# EAGLE library part 749020015 (library WE-LAN)
WE-LAN LAN Transformer Characteristics Suitable for industrial temperatures from –40 °C up to +125 °C Different version available from 1.5 kV isolation to 6 kV. HPLE version Additional CMC for higher attenuation Non PoE, PoE and PoE++ up to 2 A PoE up to 150 W and speeds up to 1 Gbit/s Available in SMT Compliant with standards: IEEE 802.3u, IEEE 802.3ab, IEEE 802.3af, IEEE 802.3at and IEEE 802.3bt UL Recognized Applications Compatible to Industrial Ethernet systems like EtherCAT or Profinet Compliant with most IC’s for Ethernet applications such as Microchip, Texas Instruments, Broadcom, Linear Technology Router, switches, sensors, robotics, automation, IP cameras, IoT applications Details see: www.we-online.com/en/components/products/WE-LAN Created by Ella 2026-07-23 2026 (C) Würth Elektronik
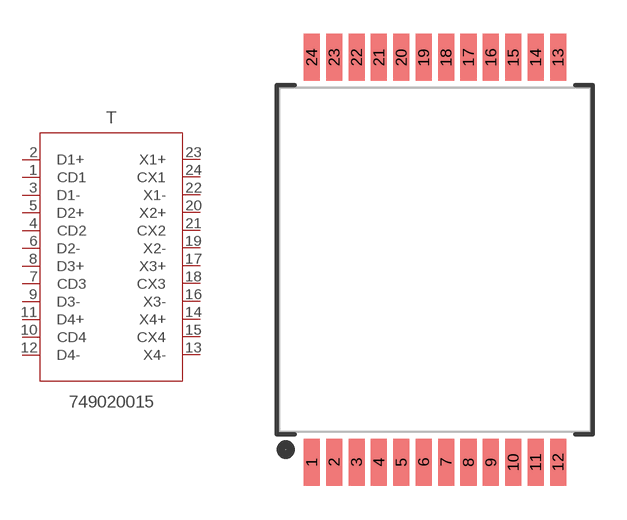
[diagram p40: symbol with the pads of 749020015; footprint 749020015]

Designator prefix T

## 749020015 (DATA-RATE: 10/100/1000BASE-T; DATASHEET: https://www.we-online.com/redexpert/spec/749020015?ae; HPLE: No; IMPROVED-CMRR: No; L: 350 uH; MOUNT: SMT; OPERATING-TEMPERATURE: -40 °C up to +85 °C; PART-NUMBER: 749020015; POE: non-PoE; PORTS: 1; VALUE: 749020015; VT: 1500 V (RMS))  [749020015]
1  CD1  pas
2  D1+  pas
3  D1-  pas
4  CD2  pas
5  D2+  pas
6  D2-  pas
7  CD3  pas
8  D3+  pas
9  D3-  pas
10  CD4  pas
11  D4+  pas
12  D4-  pas
13  X4-  pas
14  X4+  pas
15  CX4  pas
16  X3-  pas
17  X3+  pas
18  CX3  pas
19  X2-  pas
20  X2+  pas
21  CX2  pas
22  X1-  pas
23  X1+  pas
24  CX1  pas

## Footprint 749020015 (pad centres in mm)
WE-LAN LAN Transformer 10/100/1000BASE-T, 1Port, SMT
smd 0.71 x 2.08: 1 -5.445,-8.955; 2 -4.455,-8.955; 3 -3.465,-8.955; 4 -2.475,-8.955; 5 -1.485,-8.955; 6 -0.495,-8.955; 7 0.495,-8.955; 8 1.485,-8.955; 9 2.475,-8.955; 10 3.465,-8.955; 11 4.455,-8.955; 12 5.445,-8.955; 13 5.445,8.955; 14 4.455,8.955; 15 3.465,8.955; 16 2.475,8.955; 17 1.485,8.955; 18 0.495,8.955; 19 -0.495,8.955; 20 -1.485,8.955; 21 -2.475,8.955; 22 -3.465,8.955; 23 -4.455,8.955; 24 -5.445,8.955